# Altium footprint library SM_L_4MMX4MMX1.8MM.PcbLib: 1 footprints
Each footprint in its own frame and in the unit in brackets; x right, y up, seen from the top. Pads: shape width x height; smd on the part's side, far side on the other; paste and mask are expansions set on the pad; w line width, h text height; cw(c..) or ccw(c..) is an arc to the next point about the centre after c.
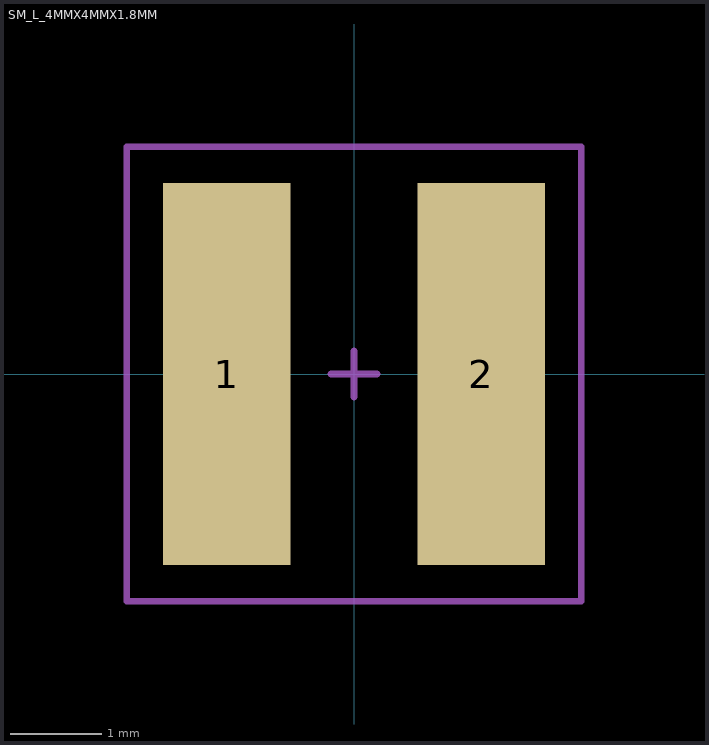
[diagram p0: the footprint, top view; thin cyan lines are the x and y axes]

## SM_L_4MMX4MMX1.8MM [mm] "4mm x 4mm x 1.8mm"
height 1.8
pads (2):
  rect 1.4x4.2 smd mask+0.076: 1(-1.4,0) 2(1.4,0)
Mechanical 15:
  lines w0.076: -0.254,0 0.254,0 ; 0,-0.254 0,0.254 ; -2.5,-2.5 2.5,-2.5 2.5,2.5 -2.5,2.5 -2.5,-2.5
3D body: height 1.8, standoff 0, extent -2,-2 2,2